# EAGLE library part ICSP-LO-SILK (library BadgeParts)
03+03 DIL Vertical Pin Header HARWIN M20 Series, 2.54mm Pitch 6 Way 2 Row Straight PCB Header, Solder Termination, 3A Source: Datasheet <https://cdn.harwin.com/pdfs/M20-998.pdf?utm_source=3D_PDF&utm_medium=3D_PDF&utm_campaign=3D_PDF>
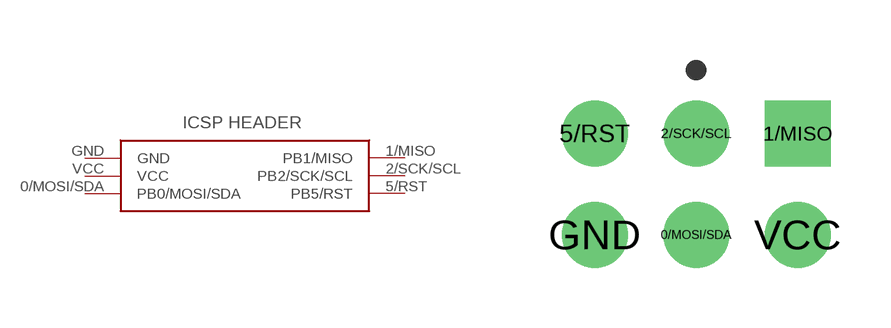
[diagram p10: symbol with the pads of ICSP-LO-SILK; footprint ICSP-LO-SILK]

Designator prefix J

## ICSP-LO-SILK  [ICSP-LO-SILK]
0/MOSI/SDA  PB0/MOSI/SDA
1/MISO  PB1/MISO
2/SCK/SCL  PB2/SCK/SCL
5/RST  PB5/RST
GND  GND
VCC  VCC

## Footprint ICSP-LO-SILK (pad centres in mm)
M20-9980346
drill 1.1 pad 1.65: 0/MOSI/SDA 0,1.27; 2/SCK/SCL 0,3.81; 5/RST -2.54,3.81; GND -2.54,1.27; VCC 2.54,1.27
drill 1.1 pad 1.65 square: 1/MISO 2.54,3.81